# Altium integrated library TI Data Converters Analog to Digital Converter.IntLib: 2198 symbols (part 24 of 164)
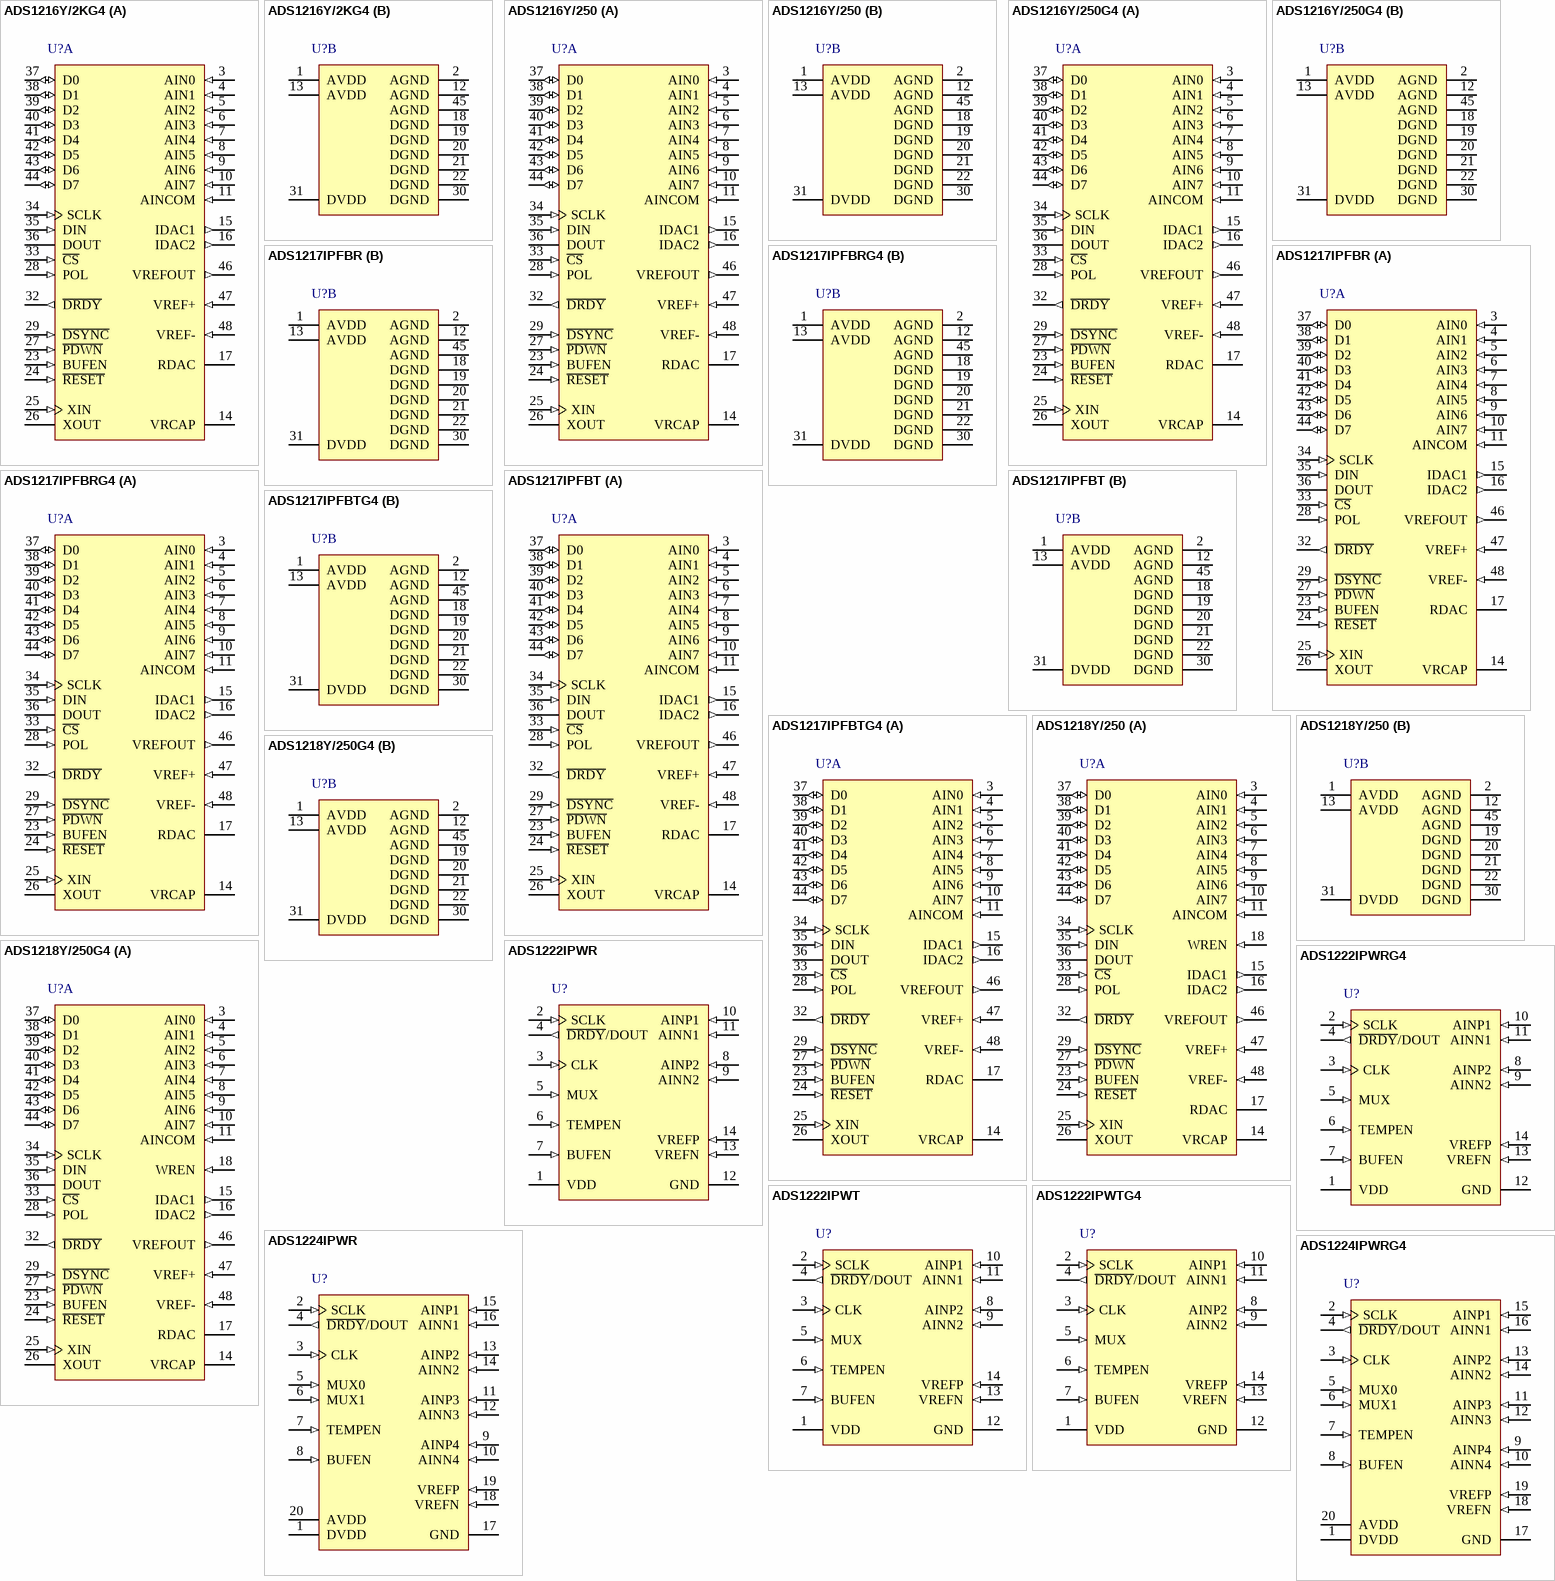
[diagram p149: symbols ADS1216Y/2KG4 to ADS1224IPWRG4]

## ADS1216Y/250G4
designator U?
24-Bit ADC, -40 to 85 degC, 48-pin QFP (PFB48), Green (RoHS & no Sb/Br); Manufacturer: Texas Instruments; PartNumber: ADS1216Y/250G4; # Input Channels: 8; Analog Voltage AV/DD(Max)(V): 5.25; Analog Voltage AV/DD(Min)(V): 2.7; Architecture: Delta-Sigma; ENOB(Bits): 22; Interface: Serial SPI; Resolution(Bits): 24; Sample Rate (max)(SPS): 780; SubFamily: Precision ADC (<=10MSPS); DatasheetVersion: SBAS171D; PackageVersion: 4073176/B, 10/1996; PackageReference: PFB48; PackageDescription: 48-Pin Plastic Flat Pack, Body 7 x 7 mm, Pitch 0.5 mm; Supplier 1: Digi-Key; Supplier Part Number 1: ADS1254E/2K5G4-ND; Digital Supply(Max)(V): 5.25; Digital Supply(Min)(V): 2.7; Eco-Plan: Green (RoHS & no Sb/Br); Mounting Technology: Surface Mount; Code_JEDEC: MS-026; ComponentLink1Description: Manufacturer URL; ComponentLink1URL: http://www.ti.com/; ComponentLink2Description: Datasheet; ComponentLink2URL: http://www.ti.com/general/docs/lit/getliterature.tsp?genericPartNumber=ADS1216&fileType=pdf; ComponentLink3Description: Package Specification; ComponentLink3URL: http://www.ti.com/lit/ml/mtqf019a/mtqf019a.pdf
footprint TI-PFB48_N (QFP, 48-Leads, Body 7x7mm, Pitch 0.5mm, IPC Medium Density)
footprint TI-PFB48_L (QFP, 48-Leads, Body 7x7mm, Pitch 0.5mm, IPC High Density)
footprint TI-PFB48_M (QFP, 48-Leads, Body 7x7mm, Pitch 0.5mm, IPC Low Density)
part A pins: 3 AIN0 (in) "Analog Input 0", 4 AIN1 (in) "Analog Input 1", 5 AIN2 (in) "Analog Input 2", 6 AIN3 (in) "Analog Input 3", 7 AIN4 (in) "Analog Input 4", 8 AIN5 (in) "Analog Input 5", 9 AIN6 (in) "Analog Input 6", 10 AIN7 (in) "Analog Input 7", 11 AINCOM (in) "Analog Input Common", 14 VRCAP "VREFOUT Bypass Capacitor", 15 IDAC1 (out) "Current DAC1 Output", 16 IDAC2 (out) "Current DAC2 Output", 17 RDAC "Current DAC Resistor", 23 BUFEN (in) "Buffer Enable Input", 24 ~{RESET} (in) "Active LOW, resets the entire chip.", 25 XIN (in) "Clock Input", 26 XOUT "Clock Output, used with crystal or resonator.", 27 ~{PDWN} (in) "Active LOW. Power Down. The power-down function shuts down the analog and digital circuits", 28 POL (in) "Serial Clock Polarity Input", 29 ~{DSYNC} (in) "Active LOW, Synchronization Control Input", 32 ~{DRDY} (out) "Active LOW, Data Ready Output", 33 ~{CS} (in) "Active LOW, Chip Select Input", 34 SCLK (in) "Serial Clock, Schmitt Trigger", 35 DIN (in) "Serial Data Input, Schmitt Trigger", 36 DOUT (hiz) "Serial Data Output", 37 D0 (io) "Digital I/O 0", 38 D1 (io) "Digital I/O 1", 39 D2 (io) "Digital I/O 2", 40 D3 (io) "Digital I/O 3", 41 D4 (io) "Digital I/O 4", 42 D5 (io) "Digital I/O 5", 43 D6 (io) "Digital I/O 6", 44 D7 (io) "Digital I/O 7", 46 VREFOUT (out) "Voltage Reference Output", 47 VREF+ (in) "Positive Differential Reference Input", 48 VREF- (in) "Negative Differential Reference Input"
part B pins: 1 AVDD (power) "Analog Power Supply", 2 AGND (power) "Analog Ground", 12 AGND (power) "Analog Ground", 13 AVDD (power) "Analog Power Supply", 18 DGND (power) "Digital Ground", 19 DGND (power) "Digital Ground", 20 DGND (power) "Digital Ground", 21 DGND (power) "Digital Ground", 22 DGND (power) "Digital Ground", 30 DGND (power) "Digital Ground", 31 DVDD (power) "Digital Power Supply", 45 AGND (power) "Analog Ground"

## ADS1217IPFBR
designator U?
8-Channel, 24-Bit ADC, -40 to 85 degC, 48-pin QFP (PFB48), Green (RoHS & no Sb/Br); Manufacturer: Texas Instruments; PartNumber: ADS1217IPFBR; # Input Channels: 8; Analog Voltage AV/DD(Max)(V): 5.25; Analog Voltage AV/DD(Min)(V): 2.7; Architecture: Delta-Sigma; ENOB(Bits): 22; Interface: Serial SPI; Resolution(Bits): 24; Sample Rate (max)(SPS): 780; SubFamily: Precision ADC (<=10MSPS); DatasheetVersion: SBAS260C; PackageVersion: 4073176/B, 10/1996; PackageReference: PFB48; PackageDescription: 48-Pin Plastic Flat Pack, Body 7 x 7 mm, Pitch 0.5 mm; Supplier 1: Digi-Key; Supplier Part Number 1: ADS1254EG4-ND; Digital Supply(Max)(V): 5.25; Digital Supply(Min)(V): 2.7; Eco-Plan: Green (RoHS & no Sb/Br); Mounting Technology: Surface Mount; Code_JEDEC: MS-026; ComponentLink1Description: Manufacturer URL; ComponentLink1URL: http://www.ti.com/; ComponentLink2Description: Datasheet; ComponentLink2URL: http://www.ti.com/general/docs/lit/getliterature.tsp?genericPartNumber=ADS1217&fileType=pdf; ComponentLink3Description: Package Specification; ComponentLink3URL: http://www.ti.com/lit/ml/mtqf019a/mtqf019a.pdf
footprint TI-PFB48_N (QFP, 48-Leads, Body 7x7mm, Pitch 0.5mm, IPC Medium Density)
footprint TI-PFB48_L (QFP, 48-Leads, Body 7x7mm, Pitch 0.5mm, IPC High Density)
footprint TI-PFB48_M (QFP, 48-Leads, Body 7x7mm, Pitch 0.5mm, IPC Low Density)
part A pins: 3 AIN0 (in) "Analog Input 0", 4 AIN1 (in) "Analog Input 1", 5 AIN2 (in) "Analog Input 2", 6 AIN3 (in) "Analog Input 3", 7 AIN4 (in) "Analog Input 4", 8 AIN5 (in) "Analog Input 5", 9 AIN6 (in) "Analog Input 6", 10 AIN7 (in) "Analog Input 7", 11 AINCOM (in) "Analog Input Common", 14 VRCAP "VREFOUT Bypass Capacitor", 15 IDAC1 (out) "Current DAC1 Output", 16 IDAC2 (out) "Current DAC2 Output", 17 RDAC "Current DAC Resistor", 23 BUFEN (in) "Buffer Enable Input", 24 ~{RESET} (in) "Active LOW, resets the entire chip.", 25 XIN (in) "Clock Input", 26 XOUT "Clock Output, used with crystal or resonator.", 27 ~{PDWN} (in) "Active LOW. Power Down. The power-down function shuts down the analog and digital circuits", 28 POL (in) "Serial Clock Polarity Input", 29 ~{DSYNC} (in) "Active LOW, Synchronization Control Input", 32 ~{DRDY} (out) "Active LOW, Data Ready Output", 33 ~{CS} (in) "Active LOW, Chip Select Input", 34 SCLK (in) "Serial Clock, Schmitt Trigger", 35 DIN (in) "Serial Data Input, Schmitt Trigger", 36 DOUT (hiz) "Serial Data Output", 37 D0 (io) "Digital I/O 0", 38 D1 (io) "Digital I/O 1", 39 D2 (io) "Digital I/O 2", 40 D3 (io) "Digital I/O 3", 41 D4 (io) "Digital I/O 4", 42 D5 (io) "Digital I/O 5", 43 D6 (io) "Digital I/O 6", 44 D7 (io) "Digital I/O 7", 46 VREFOUT (out) "Voltage Reference Output", 47 VREF+ (in) "Positive Differential Reference Input", 48 VREF- (in) "Negative Differential Reference Input"
part B pins: 1 AVDD (power) "Analog Power Supply", 2 AGND (power) "Analog Ground", 12 AGND (power) "Analog Ground", 13 AVDD (power) "Analog Power Supply", 18 DGND (power) "Digital Ground", 19 DGND (power) "Digital Ground", 20 DGND (power) "Digital Ground", 21 DGND (power) "Digital Ground", 22 DGND (power) "Digital Ground", 30 DGND (power) "Digital Ground", 31 DVDD (power) "Digital Power Supply", 45 AGND (power) "Analog Ground"

## ADS1217IPFBRG4
designator U?
8-Channel, 24-Bit ADC, -40 to 85 degC, 48-pin QFP (PFB48), Green (RoHS & no Sb/Br); Manufacturer: Texas Instruments; PartNumber: ADS1217IPFBRG4; # Input Channels: 8; Analog Voltage AV/DD(Max)(V): 5.25; Analog Voltage AV/DD(Min)(V): 2.7; Architecture: Delta-Sigma; ENOB(Bits): 22; Interface: Serial SPI; Resolution(Bits): 24; Sample Rate (max)(SPS): 780; SubFamily: Precision ADC (<=10MSPS); DatasheetVersion: SBAS260C; PackageVersion: 4073176/B, 10/1996; PackageReference: PFB48; PackageDescription: 48-Pin Plastic Flat Pack, Body 7 x 7 mm, Pitch 0.5 mm; Supplier 1: Digi-Key; Supplier Part Number 1: ADS8345E-ND; Digital Supply(Max)(V): 5.25; Digital Supply(Min)(V): 2.7; Eco-Plan: Green (RoHS & no Sb/Br); Mounting Technology: Surface Mount; Code_JEDEC: MS-026; ComponentLink1Description: Manufacturer URL; ComponentLink1URL: http://www.ti.com/; ComponentLink2Description: Datasheet; ComponentLink2URL: http://www.ti.com/general/docs/lit/getliterature.tsp?genericPartNumber=ADS1217&fileType=pdf; ComponentLink3Description: Package Specification; ComponentLink3URL: http://www.ti.com/lit/ml/mtqf019a/mtqf019a.pdf
footprint TI-PFB48_N (QFP, 48-Leads, Body 7x7mm, Pitch 0.5mm, IPC Medium Density)
footprint TI-PFB48_L (QFP, 48-Leads, Body 7x7mm, Pitch 0.5mm, IPC High Density)
footprint TI-PFB48_M (QFP, 48-Leads, Body 7x7mm, Pitch 0.5mm, IPC Low Density)
part A pins: 3 AIN0 (in) "Analog Input 0", 4 AIN1 (in) "Analog Input 1", 5 AIN2 (in) "Analog Input 2", 6 AIN3 (in) "Analog Input 3", 7 AIN4 (in) "Analog Input 4", 8 AIN5 (in) "Analog Input 5", 9 AIN6 (in) "Analog Input 6", 10 AIN7 (in) "Analog Input 7", 11 AINCOM (in) "Analog Input Common", 14 VRCAP "VREFOUT Bypass Capacitor", 15 IDAC1 (out) "Current DAC1 Output", 16 IDAC2 (out) "Current DAC2 Output", 17 RDAC "Current DAC Resistor", 23 BUFEN (in) "Buffer Enable Input", 24 ~{RESET} (in) "Active LOW, resets the entire chip.", 25 XIN (in) "Clock Input", 26 XOUT "Clock Output, used with crystal or resonator.", 27 ~{PDWN} (in) "Active LOW. Power Down. The power-down function shuts down the analog and digital circuits", 28 POL (in) "Serial Clock Polarity Input", 29 ~{DSYNC} (in) "Active LOW, Synchronization Control Input", 32 ~{DRDY} (out) "Active LOW, Data Ready Output", 33 ~{CS} (in) "Active LOW, Chip Select Input", 34 SCLK (in) "Serial Clock, Schmitt Trigger", 35 DIN (in) "Serial Data Input, Schmitt Trigger", 36 DOUT (hiz) "Serial Data Output", 37 D0 (io) "Digital I/O 0", 38 D1 (io) "Digital I/O 1", 39 D2 (io) "Digital I/O 2", 40 D3 (io) "Digital I/O 3", 41 D4 (io) "Digital I/O 4", 42 D5 (io) "Digital I/O 5", 43 D6 (io) "Digital I/O 6", 44 D7 (io) "Digital I/O 7", 46 VREFOUT (out) "Voltage Reference Output", 47 VREF+ (in) "Positive Differential Reference Input", 48 VREF- (in) "Negative Differential Reference Input"
part B pins: 1 AVDD (power) "Analog Power Supply", 2 AGND (power) "Analog Ground", 12 AGND (power) "Analog Ground", 13 AVDD (power) "Analog Power Supply", 18 DGND (power) "Digital Ground", 19 DGND (power) "Digital Ground", 20 DGND (power) "Digital Ground", 21 DGND (power) "Digital Ground", 22 DGND (power) "Digital Ground", 30 DGND (power) "Digital Ground", 31 DVDD (power) "Digital Power Supply", 45 AGND (power) "Analog Ground"

## ADS1217IPFBT
designator U?
8-Channel, 24-Bit ADC, -40 to 85 degC, 48-pin QFP (PFB48), Green (RoHS & no Sb/Br); Manufacturer: Texas Instruments; PartNumber: ADS1217IPFBT; # Input Channels: 8; Analog Voltage AV/DD(Max)(V): 5.25; Analog Voltage AV/DD(Min)(V): 2.7; Architecture: Delta-Sigma; ENOB(Bits): 22; Interface: Serial SPI; Resolution(Bits): 24; Sample Rate (max)(SPS): 780; SubFamily: Precision ADC (<=10MSPS); DatasheetVersion: SBAS260C; PackageVersion: 4073176/B, 10/1996; PackageReference: PFB48; PackageDescription: 48-Pin Plastic Flat Pack, Body 7 x 7 mm, Pitch 0.5 mm; Supplier 1: Digi-Key; Supplier Part Number 1: ADS8345E/2K5-ND; Digital Supply(Max)(V): 5.25; Digital Supply(Min)(V): 2.7; Eco-Plan: Green (RoHS & no Sb/Br); Mounting Technology: Surface Mount; Code_JEDEC: MS-026; ComponentLink1Description: Manufacturer URL; ComponentLink1URL: http://www.ti.com/; ComponentLink2Description: Datasheet; ComponentLink2URL: http://www.ti.com/general/docs/lit/getliterature.tsp?genericPartNumber=ADS1217&fileType=pdf; ComponentLink3Description: Package Specification; ComponentLink3URL: http://www.ti.com/lit/ml/mtqf019a/mtqf019a.pdf
footprint TI-PFB48_N (QFP, 48-Leads, Body 7x7mm, Pitch 0.5mm, IPC Medium Density)
footprint TI-PFB48_L (QFP, 48-Leads, Body 7x7mm, Pitch 0.5mm, IPC High Density)
footprint TI-PFB48_M (QFP, 48-Leads, Body 7x7mm, Pitch 0.5mm, IPC Low Density)
part A pins: 3 AIN0 (in) "Analog Input 0", 4 AIN1 (in) "Analog Input 1", 5 AIN2 (in) "Analog Input 2", 6 AIN3 (in) "Analog Input 3", 7 AIN4 (in) "Analog Input 4", 8 AIN5 (in) "Analog Input 5", 9 AIN6 (in) "Analog Input 6", 10 AIN7 (in) "Analog Input 7", 11 AINCOM (in) "Analog Input Common", 14 VRCAP "VREFOUT Bypass Capacitor", 15 IDAC1 (out) "Current DAC1 Output", 16 IDAC2 (out) "Current DAC2 Output", 17 RDAC "Current DAC Resistor", 23 BUFEN (in) "Buffer Enable Input", 24 ~{RESET} (in) "Active LOW, resets the entire chip.", 25 XIN (in) "Clock Input", 26 XOUT "Clock Output, used with crystal or resonator.", 27 ~{PDWN} (in) "Active LOW. Power Down. The power-down function shuts down the analog and digital circuits", 28 POL (in) "Serial Clock Polarity Input", 29 ~{DSYNC} (in) "Active LOW, Synchronization Control Input", 32 ~{DRDY} (out) "Active LOW, Data Ready Output", 33 ~{CS} (in) "Active LOW, Chip Select Input", 34 SCLK (in) "Serial Clock, Schmitt Trigger", 35 DIN (in) "Serial Data Input, Schmitt Trigger", 36 DOUT (hiz) "Serial Data Output", 37 D0 (io) "Digital I/O 0", 38 D1 (io) "Digital I/O 1", 39 D2 (io) "Digital I/O 2", 40 D3 (io) "Digital I/O 3", 41 D4 (io) "Digital I/O 4", 42 D5 (io) "Digital I/O 5", 43 D6 (io) "Digital I/O 6", 44 D7 (io) "Digital I/O 7", 46 VREFOUT (out) "Voltage Reference Output", 47 VREF+ (in) "Positive Differential Reference Input", 48 VREF- (in) "Negative Differential Reference Input"
part B pins: 1 AVDD (power) "Analog Power Supply", 2 AGND (power) "Analog Ground", 12 AGND (power) "Analog Ground", 13 AVDD (power) "Analog Power Supply", 18 DGND (power) "Digital Ground", 19 DGND (power) "Digital Ground", 20 DGND (power) "Digital Ground", 21 DGND (power) "Digital Ground", 22 DGND (power) "Digital Ground", 30 DGND (power) "Digital Ground", 31 DVDD (power) "Digital Power Supply", 45 AGND (power) "Analog Ground"

## ADS1217IPFBTG4
designator U?
8-Channel, 24-Bit ADC, -40 to 85 degC, 48-pin QFP (PFB48), Green (RoHS & no Sb/Br); Manufacturer: Texas Instruments; PartNumber: ADS1217IPFBTG4; # Input Channels: 8; Analog Voltage AV/DD(Max)(V): 5.25; Analog Voltage AV/DD(Min)(V): 2.7; Architecture: Delta-Sigma; ENOB(Bits): 22; Interface: Serial SPI; Resolution(Bits): 24; Sample Rate (max)(SPS): 780; SubFamily: Precision ADC (<=10MSPS); DatasheetVersion: SBAS260C; PackageVersion: 4073176/B, 10/1996; PackageReference: PFB48; PackageDescription: 48-Pin Plastic Flat Pack, Body 7 x 7 mm, Pitch 0.5 mm; Supplier 1: Digi-Key; Supplier Part Number 1: ADS8345E/2K5G4-ND; Digital Supply(Max)(V): 5.25; Digital Supply(Min)(V): 2.7; Eco-Plan: Green (RoHS & no Sb/Br); Mounting Technology: Surface Mount; Code_JEDEC: MS-026; ComponentLink1Description: Manufacturer URL; ComponentLink1URL: http://www.ti.com/; ComponentLink2Description: Datasheet; ComponentLink2URL: http://www.ti.com/general/docs/lit/getliterature.tsp?genericPartNumber=ADS1217&fileType=pdf; ComponentLink3Description: Package Specification; ComponentLink3URL: http://www.ti.com/lit/ml/mtqf019a/mtqf019a.pdf
footprint TI-PFB48_N (QFP, 48-Leads, Body 7x7mm, Pitch 0.5mm, IPC Medium Density)
footprint TI-PFB48_L (QFP, 48-Leads, Body 7x7mm, Pitch 0.5mm, IPC High Density)
footprint TI-PFB48_M (QFP, 48-Leads, Body 7x7mm, Pitch 0.5mm, IPC Low Density)
part A pins: 3 AIN0 (in) "Analog Input 0", 4 AIN1 (in) "Analog Input 1", 5 AIN2 (in) "Analog Input 2", 6 AIN3 (in) "Analog Input 3", 7 AIN4 (in) "Analog Input 4", 8 AIN5 (in) "Analog Input 5", 9 AIN6 (in) "Analog Input 6", 10 AIN7 (in) "Analog Input 7", 11 AINCOM (in) "Analog Input Common", 14 VRCAP "VREFOUT Bypass Capacitor", 15 IDAC1 (out) "Current DAC1 Output", 16 IDAC2 (out) "Current DAC2 Output", 17 RDAC "Current DAC Resistor", 23 BUFEN (in) "Buffer Enable Input", 24 ~{RESET} (in) "Active LOW, resets the entire chip.", 25 XIN (in) "Clock Input", 26 XOUT "Clock Output, used with crystal or resonator.", 27 ~{PDWN} (in) "Active LOW. Power Down. The power-down function shuts down the analog and digital circuits", 28 POL (in) "Serial Clock Polarity Input", 29 ~{DSYNC} (in) "Active LOW, Synchronization Control Input", 32 ~{DRDY} (out) "Active LOW, Data Ready Output", 33 ~{CS} (in) "Active LOW, Chip Select Input", 34 SCLK (in) "Serial Clock, Schmitt Trigger", 35 DIN (in) "Serial Data Input, Schmitt Trigger", 36 DOUT (hiz) "Serial Data Output", 37 D0 (io) "Digital I/O 0", 38 D1 (io) "Digital I/O 1", 39 D2 (io) "Digital I/O 2", 40 D3 (io) "Digital I/O 3", 41 D4 (io) "Digital I/O 4", 42 D5 (io) "Digital I/O 5", 43 D6 (io) "Digital I/O 6", 44 D7 (io) "Digital I/O 7", 46 VREFOUT (out) "Voltage Reference Output", 47 VREF+ (in) "Positive Differential Reference Input", 48 VREF- (in) "Negative Differential Reference Input"
part B pins: 1 AVDD (power) "Analog Power Supply", 2 AGND (power) "Analog Ground", 12 AGND (power) "Analog Ground", 13 AVDD (power) "Analog Power Supply", 18 DGND (power) "Digital Ground", 19 DGND (power) "Digital Ground", 20 DGND (power) "Digital Ground", 21 DGND (power) "Digital Ground", 22 DGND (power) "Digital Ground", 30 DGND (power) "Digital Ground", 31 DVDD (power) "Digital Power Supply", 45 AGND (power) "Analog Ground"

## ADS1218Y/250
designator U?
24-Bit, 780 SPS ADC with Flash Memory, 8 Channel, Vref, Buffer, 2 IDAC, Serial Out, Digital I/O, Low Power, -40 to 85 degC, 48-pin QFP (PFB48), Green (RoHS & no Sb/Br); Manufacturer: Texas Instruments; PartNumber: ADS1218Y/250; # Input Channels: 8; Analog Voltage AV/DD(Max)(V): 5.25; Analog Voltage AV/DD(Min)(V): 2.7; Architecture: Delta-Sigma; ENOB(Bits): 22; Interface: Serial SPI; Resolution(Bits): 24; Sample Rate (max)(SPS): 780; SubFamily: Precision ADC (<=10MSPS); DatasheetVersion: SBAS187C; PackageVersion: 4073176/B, 10/1996; PackageReference: PFB48; PackageDescription: 48-Pin Plastic Flat Pack, Body 7 x 7 mm, Pitch 0.5 mm; Supplier 1: Digi-Key; Supplier Part Number 1: 296-32825-5-ND; Digital Supply(Max)(V): 5.25; Digital Supply(Min)(V): 2.7; Eco-Plan: Green (RoHS & no Sb/Br); Mounting Technology: Surface Mount; Code_JEDEC: MS-026; ComponentLink1Description: Manufacturer URL; ComponentLink1URL: http://www.ti.com/; ComponentLink2Description: Datasheet; ComponentLink2URL: http://www.ti.com/general/docs/lit/getliterature.tsp?genericPartNumber=ADS1218&fileType=pdf; ComponentLink3Description: Package Specification; ComponentLink3URL: http://www.ti.com/lit/ml/mtqf019a/mtqf019a.pdf
footprint TI-PFB48_N (QFP, 48-Leads, Body 7x7mm, Pitch 0.5mm, IPC Medium Density)
footprint TI-PFB48_L (QFP, 48-Leads, Body 7x7mm, Pitch 0.5mm, IPC High Density)
footprint TI-PFB48_M (QFP, 48-Leads, Body 7x7mm, Pitch 0.5mm, IPC Low Density)
part A pins: 3 AIN0 (in) "Analog Input 0", 4 AIN1 (in) "Analog Input 1", 5 AIN2 (in) "Analog Input 2", 6 AIN3 (in) "Analog Input 3", 7 AIN4 (in) "Analog Input 4", 8 AIN5 (in) "Analog Input 5", 9 AIN6 (in) "Analog Input 6", 10 AIN7 (in) "Analog Input 7", 11 AINCOM (in) "Analog Input Common", 14 VRCAP "VREFOUT Bypass Capacitor", 15 IDAC1 (out) "Current DAC1 Output", 16 IDAC2 (out) "Current DAC2 Output", 17 RDAC "Current DAC Resistor", 18 WREN (in) "Active High, Flash Write Enable", 23 BUFEN (in) "Buffer Enable Input", 24 ~{RESET} (in) "Active LOW, resets the entire chip.", 25 XIN (in) "Clock Input", 26 XOUT "Clock Output, used with crystal or resonator.", 27 ~{PDWN} (in) "Active LOW. Power Down. The power-down function shuts down the analog and digital circuits", 28 POL (in) "Serial Clock Polarity Input", 29 ~{DSYNC} (in) "Active LOW, Synchronization Control Input", 32 ~{DRDY} (out) "Active LOW, Data Ready Output", 33 ~{CS} (in) "Active LOW, Chip Select Input", 34 SCLK (in) "Serial Clock, Schmitt Trigger", 35 DIN (in) "Serial Data Input, Schmitt Trigger", 36 DOUT (hiz) "Serial Data Output", 37 D0 (io) "Digital I/O 0", 38 D1 (io) "Digital I/O 1", 39 D2 (io) "Digital I/O 2", 40 D3 (io) "Digital I/O 3", 41 D4 (io) "Digital I/O 4", 42 D5 (io) "Digital I/O 5", 43 D6 (io) "Digital I/O 6", 44 D7 (io) "Digital I/O 7", 46 VREFOUT (out) "Voltage Reference Output", 47 VREF+ (in) "Positive Differential Reference Input", 48 VREF- (in) "Negative Differential Reference Input"
part B pins: 1 AVDD (power) "Analog Power Supply", 2 AGND (power) "Analog Ground", 12 AGND (power) "Analog Ground", 13 AVDD (power) "Analog Power Supply", 19 DGND (power) "Digital Ground", 20 DGND (power) "Digital Ground", 21 DGND (power) "Digital Ground", 22 DGND (power) "Digital Ground", 30 DGND (power) "Digital Ground", 31 DVDD (power) "Digital Power Supply", 45 AGND (power) "Analog Ground"

## ADS1218Y/250G4
designator U?
24-Bit, 780 SPS ADC with Flash Memory, 8 Channel, Vref, Buffer, 2 IDAC, Serial Out, Digital I/O, Low Power, -40 to 85 degC, 48-pin QFP (PFB48), Green (RoHS & no Sb/Br); Manufacturer: Texas Instruments; PartNumber: ADS1218Y/250G4; # Input Channels: 8; Analog Voltage AV/DD(Max)(V): 5.25; Analog Voltage AV/DD(Min)(V): 2.7; Architecture: Delta-Sigma; ENOB(Bits): 22; Interface: Serial SPI; Resolution(Bits): 24; Sample Rate (max)(SPS): 780; SubFamily: Precision ADC (<=10MSPS); DatasheetVersion: SBAS187C; PackageVersion: 4073176/B, 10/1996; PackageReference: PFB48; PackageDescription: 48-Pin Plastic Flat Pack, Body 7 x 7 mm, Pitch 0.5 mm; Supplier 1: Digi-Key; Supplier Part Number 1: ADS8345EBE4-ND; Digital Supply(Max)(V): 5.25; Digital Supply(Min)(V): 2.7; Eco-Plan: Green (RoHS & no Sb/Br); Mounting Technology: Surface Mount; Code_JEDEC: MS-026; ComponentLink1Description: Manufacturer URL; ComponentLink1URL: http://www.ti.com/; ComponentLink2Description: Datasheet; ComponentLink2URL: http://www.ti.com/general/docs/lit/getliterature.tsp?genericPartNumber=ADS1218&fileType=pdf; ComponentLink3Description: Package Specification; ComponentLink3URL: http://www.ti.com/lit/ml/mtqf019a/mtqf019a.pdf
footprint TI-PFB48_N (QFP, 48-Leads, Body 7x7mm, Pitch 0.5mm, IPC Medium Density)
footprint TI-PFB48_L (QFP, 48-Leads, Body 7x7mm, Pitch 0.5mm, IPC High Density)
footprint TI-PFB48_M (QFP, 48-Leads, Body 7x7mm, Pitch 0.5mm, IPC Low Density)
part A pins: 3 AIN0 (in) "Analog Input 0", 4 AIN1 (in) "Analog Input 1", 5 AIN2 (in) "Analog Input 2", 6 AIN3 (in) "Analog Input 3", 7 AIN4 (in) "Analog Input 4", 8 AIN5 (in) "Analog Input 5", 9 AIN6 (in) "Analog Input 6", 10 AIN7 (in) "Analog Input 7", 11 AINCOM (in) "Analog Input Common", 14 VRCAP "VREFOUT Bypass Capacitor", 15 IDAC1 (out) "Current DAC1 Output", 16 IDAC2 (out) "Current DAC2 Output", 17 RDAC "Current DAC Resistor", 18 WREN (in) "Active High, Flash Write Enable", 23 BUFEN (in) "Buffer Enable Input", 24 ~{RESET} (in) "Active LOW, resets the entire chip.", 25 XIN (in) "Clock Input", 26 XOUT "Clock Output, used with crystal or resonator.", 27 ~{PDWN} (in) "Active LOW. Power Down. The power-down function shuts down the analog and digital circuits", 28 POL (in) "Serial Clock Polarity Input", 29 ~{DSYNC} (in) "Active LOW, Synchronization Control Input", 32 ~{DRDY} (out) "Active LOW, Data Ready Output", 33 ~{CS} (in) "Active LOW, Chip Select Input", 34 SCLK (in) "Serial Clock, Schmitt Trigger", 35 DIN (in) "Serial Data Input, Schmitt Trigger", 36 DOUT (hiz) "Serial Data Output", 37 D0 (io) "Digital I/O 0", 38 D1 (io) "Digital I/O 1", 39 D2 (io) "Digital I/O 2", 40 D3 (io) "Digital I/O 3", 41 D4 (io) "Digital I/O 4", 42 D5 (io) "Digital I/O 5", 43 D6 (io) "Digital I/O 6", 44 D7 (io) "Digital I/O 7", 46 VREFOUT (out) "Voltage Reference Output", 47 VREF+ (in) "Positive Differential Reference Input", 48 VREF- (in) "Negative Differential Reference Input"
part B pins: 1 AVDD (power) "Analog Power Supply", 2 AGND (power) "Analog Ground", 12 AGND (power) "Analog Ground", 13 AVDD (power) "Analog Power Supply", 19 DGND (power) "Digital Ground", 20 DGND (power) "Digital Ground", 21 DGND (power) "Digital Ground", 22 DGND (power) "Digital Ground", 30 DGND (power) "Digital Ground", 31 DVDD (power) "Digital Power Supply", 45 AGND (power) "Analog Ground"

## ADS1222IPWR
designator U?
24-Bit ADC with 2-Channel Diffrential Input Multiplexer, -40 to 85 degC, 14-pin SOP (PW14), Green (RoHS & no Sb/Br); Manufacturer: Texas Instruments; PartNumber: ADS1222IPWR; # Input Channels: 2; Analog Voltage AV/DD(Max)(V): 5.5; Analog Voltage AV/DD(Min)(V): 2.7; Architecture: Delta-Sigma; ENOB(Bits): 20; Interface: Serial SPI; Resolution(Bits): 24; Sample Rate (max)(SPS): 240; SubFamily: Precision ADC (<=10MSPS); DatasheetVersion: SBAS314B; PackageVersion: 4040064-3/G, 02/2011; PackageReference: PW14; PackageDescription: 14-Pin Plastic Small Outline, Body 5 x 4.4 mm, Pitch 0.65 mm; Supplier 1: Digi-Key; Supplier Part Number 1: ADS8345EE4-ND; Digital Supply(Max)(V): 5.5; Digital Supply(Min)(V): 2.7; Eco-Plan: Green (RoHS & no Sb/Br); Mounting Technology: Surface Mount; Code_JEDEC: MO-153; ComponentLink1Description: Manufacturer URL; ComponentLink1URL: http://www.ti.com/; ComponentLink2Description: Datasheet; ComponentLink2URL: http://www.ti.com/general/docs/lit/getliterature.tsp?genericPartNumber=ADS1222&fileType=pdf; ComponentLink3Description: Package Specification; ComponentLink3URL: http://www.ti.com/litv/pdf/mpds360
footprint TI-PW14_N (SOP, 14-Leads, Body 5x4.4mm, Pitch 0.65mm, IPC Medium Density)
footprint TI-PW14_L (SOP, 14-Leads, Body 5x4.4mm, Pitch 0.65mm, IPC High Density)
footprint TI-PW14_M (SOP, 14-Leads, Body 5x4.4mm, Pitch 0.65mm, IPC Low Density)
pins: 1 VDD (power) "Analog and digital power supply", 2 SCLK (in) "Serial clock input", 3 CLK (in) "System clock input", 4 ~{DRDY}/DOUT (out) "Dual-purpose output: Data ready: indicates valid data by going low. Data output: outputs data, MSB first, on the rising edge of SCLK", 5 MUX (in) "Selects analog input of mux", 6 TEMPEN (in) "Selects temperature sensor input from mux", 7 BUFEN (in) "Enables input buffer", 8 AINP2 (in) "Analog channel 2 positive input", 9 AINN2 (in) "Analog channel 2 negative input", 10 AINP1 (in) "Analog channel 1 positive input", 11 AINN1 (in) "Analog channel 1 negative input", 12 GND (power) "Analog and digital ground", 13 VREFN (in) "Negative reference input", 14 VREFP (in) "Positive reference input"

## ADS1222IPWRG4
designator U?
24-Bit ADC with 2-Channel Diffrential Input Multiplexer, -40 to 85 degC, 14-pin SOP (PW14), Green (RoHS & no Sb/Br); Manufacturer: Texas Instruments; PartNumber: ADS1222IPWRG4; # Input Channels: 2; Analog Voltage AV/DD(Max)(V): 5.5; Analog Voltage AV/DD(Min)(V): 2.7; Architecture: Delta-Sigma; ENOB(Bits): 20; Interface: Serial SPI; Resolution(Bits): 24; Sample Rate (max)(SPS): 240; SubFamily: Precision ADC (<=10MSPS); DatasheetVersion: SBAS314B; PackageVersion: 4040064-3/G, 02/2011; PackageReference: PW14; PackageDescription: 14-Pin Plastic Small Outline, Body 5 x 4.4 mm, Pitch 0.65 mm; Supplier 1: Digi-Key; Supplier Part Number 1: ADS8344E-ND; Digital Supply(Max)(V): 5.5; Digital Supply(Min)(V): 2.7; Eco-Plan: Green (RoHS & no Sb/Br); Mounting Technology: Surface Mount; Code_JEDEC: MO-153; ComponentLink1Description: Manufacturer URL; ComponentLink1URL: http://www.ti.com/; ComponentLink2Description: Datasheet; ComponentLink2URL: http://www.ti.com/general/docs/lit/getliterature.tsp?genericPartNumber=ADS1222&fileType=pdf; ComponentLink3Description: Package Specification; ComponentLink3URL: http://www.ti.com/litv/pdf/mpds360
footprint TI-PW14_N (SOP, 14-Leads, Body 5x4.4mm, Pitch 0.65mm, IPC Medium Density)
footprint TI-PW14_L (SOP, 14-Leads, Body 5x4.4mm, Pitch 0.65mm, IPC High Density)
footprint TI-PW14_M (SOP, 14-Leads, Body 5x4.4mm, Pitch 0.65mm, IPC Low Density)
pins: 1 VDD (power) "Analog and digital power supply", 2 SCLK (in) "Serial clock input", 3 CLK (in) "System clock input", 4 ~{DRDY}/DOUT (out) "Dual-purpose output: Data ready: indicates valid data by going low. Data output: outputs data, MSB first, on the rising edge of SCLK", 5 MUX (in) "Selects analog input of mux", 6 TEMPEN (in) "Selects temperature sensor input from mux", 7 BUFEN (in) "Enables input buffer", 8 AINP2 (in) "Analog channel 2 positive input", 9 AINN2 (in) "Analog channel 2 negative input", 10 AINP1 (in) "Analog channel 1 positive input", 11 AINN1 (in) "Analog channel 1 negative input", 12 GND (power) "Analog and digital ground", 13 VREFN (in) "Negative reference input", 14 VREFP (in) "Positive reference input"

## ADS1222IPWT
designator U?
24-Bit ADC with 2-Channel Diffrential Input Multiplexer, -40 to 85 degC, 14-pin SOP (PW14), Green (RoHS & no Sb/Br); Manufacturer: Texas Instruments; PartNumber: ADS1222IPWT; # Input Channels: 2; Analog Voltage AV/DD(Max)(V): 5.5; Analog Voltage AV/DD(Min)(V): 2.7; Architecture: Delta-Sigma; ENOB(Bits): 20; Interface: Serial SPI; Resolution(Bits): 24; Sample Rate (max)(SPS): 240; SubFamily: Precision ADC (<=10MSPS); DatasheetVersion: SBAS314B; PackageVersion: 4040064-3/G, 02/2011; PackageReference: PW14; PackageDescription: 14-Pin Plastic Small Outline, Body 5 x 4.4 mm, Pitch 0.65 mm; Supplier 1: Digi-Key; Supplier Part Number 1: ADS8344E/2K5-ND; Digital Supply(Max)(V): 5.5; Digital Supply(Min)(V): 2.7; Eco-Plan: Green (RoHS & no Sb/Br); Mounting Technology: Surface Mount; Code_JEDEC: MO-153; ComponentLink1Description: Manufacturer URL; ComponentLink1URL: http://www.ti.com/; ComponentLink2Description: Datasheet; ComponentLink2URL: http://www.ti.com/general/docs/lit/getliterature.tsp?genericPartNumber=ADS1222&fileType=pdf; ComponentLink3Description: Package Specification; ComponentLink3URL: http://www.ti.com/litv/pdf/mpds360
footprint TI-PW14_N (SOP, 14-Leads, Body 5x4.4mm, Pitch 0.65mm, IPC Medium Density)
footprint TI-PW14_L (SOP, 14-Leads, Body 5x4.4mm, Pitch 0.65mm, IPC High Density)
footprint TI-PW14_M (SOP, 14-Leads, Body 5x4.4mm, Pitch 0.65mm, IPC Low Density)
pins: 1 VDD (power) "Analog and digital power supply", 2 SCLK (in) "Serial clock input", 3 CLK (in) "System clock input", 4 ~{DRDY}/DOUT (out) "Dual-purpose output: Data ready: indicates valid data by going low. Data output: outputs data, MSB first, on the rising edge of SCLK", 5 MUX (in) "Selects analog input of mux", 6 TEMPEN (in) "Selects temperature sensor input from mux", 7 BUFEN (in) "Enables input buffer", 8 AINP2 (in) "Analog channel 2 positive input", 9 AINN2 (in) "Analog channel 2 negative input", 10 AINP1 (in) "Analog channel 1 positive input", 11 AINN1 (in) "Analog channel 1 negative input", 12 GND (power) "Analog and digital ground", 13 VREFN (in) "Negative reference input", 14 VREFP (in) "Positive reference input"

## ADS1222IPWTG4
designator U?
24-Bit ADC with 2-Channel Diffrential Input Multiplexer, -40 to 85 degC, 14-pin SOP (PW14), Green (RoHS & no Sb/Br); Manufacturer: Texas Instruments; PartNumber: ADS1222IPWTG4; # Input Channels: 2; Analog Voltage AV/DD(Max)(V): 5.5; Analog Voltage AV/DD(Min)(V): 2.7; Architecture: Delta-Sigma; ENOB(Bits): 20; Interface: Serial SPI; Resolution(Bits): 24; Sample Rate (max)(SPS): 240; SubFamily: Precision ADC (<=10MSPS); DatasheetVersion: SBAS314B; PackageVersion: 4040064-3/G, 02/2011; PackageReference: PW14; PackageDescription: 14-Pin Plastic Small Outline, Body 5 x 4.4 mm, Pitch 0.65 mm; Supplier 1: Digi-Key; Supplier Part Number 1: ADS8344E/2K5G4-ND; Digital Supply(Max)(V): 5.5; Digital Supply(Min)(V): 2.7; Eco-Plan: Green (RoHS & no Sb/Br); Mounting Technology: Surface Mount; Code_JEDEC: MO-153; ComponentLink1Description: Manufacturer URL; ComponentLink1URL: http://www.ti.com/; ComponentLink2Description: Datasheet; ComponentLink2URL: http://www.ti.com/general/docs/lit/getliterature.tsp?genericPartNumber=ADS1222&fileType=pdf; ComponentLink3Description: Package Specification; ComponentLink3URL: http://www.ti.com/litv/pdf/mpds360
footprint TI-PW14_N (SOP, 14-Leads, Body 5x4.4mm, Pitch 0.65mm, IPC Medium Density)
footprint TI-PW14_L (SOP, 14-Leads, Body 5x4.4mm, Pitch 0.65mm, IPC High Density)
footprint TI-PW14_M (SOP, 14-Leads, Body 5x4.4mm, Pitch 0.65mm, IPC Low Density)
pins: 1 VDD (power) "Analog and digital power supply", 2 SCLK (in) "Serial clock input", 3 CLK (in) "System clock input", 4 ~{DRDY}/DOUT (out) "Dual-purpose output: Data ready: indicates valid data by going low. Data output: outputs data, MSB first, on the rising edge of SCLK", 5 MUX (in) "Selects analog input of mux", 6 TEMPEN (in) "Selects temperature sensor input from mux", 7 BUFEN (in) "Enables input buffer", 8 AINP2 (in) "Analog channel 2 positive input", 9 AINN2 (in) "Analog channel 2 negative input", 10 AINP1 (in) "Analog channel 1 positive input", 11 AINN1 (in) "Analog channel 1 negative input", 12 GND (power) "Analog and digital ground", 13 VREFN (in) "Negative reference input", 14 VREFP (in) "Positive reference input"

## ADS1224IPWR
designator U?
24-Bit, 240 SPS ADC with 4-Channel Differential Input Multiplexer, High-Z Buffer, Serial Output, -40 to 85 degC, 20-pin SOP (PW20), Green (RoHS & no Sb/Br); Manufacturer: Texas Instruments; PartNumber: ADS1224IPWR; # Input Channels: 4; Analog Voltage AV/DD(Max)(V): 5.5; Analog Voltage AV/DD(Min)(V): 2.7; Architecture: Delta-Sigma; Interface: Serial SPI; Resolution(Bits): 24; Sample Rate (max)(SPS): 240; SubFamily: Precision ADC (<=10MSPS); DatasheetVersion: SBAS286C; PackageVersion: 4040064-5/G, 02/2011; PackageReference: PW20; PackageDescription: 20-Pin Plastic Small Outline, Body 6.5 x 4.4 mm, Pitch 0.65 mm; Supplier 1: Digi-Key; Supplier Part Number 1: ADS8344EB-ND; Digital Supply(Max)(V): 5.5; Digital Supply(Min)(V): 2.7; Eco-Plan: Green (RoHS & no Sb/Br); Mounting Technology: Surface Mount; Code_JEDEC: MO-153; ComponentLink1Description: Manufacturer URL; ComponentLink1URL: http://www.ti.com/; ComponentLink2Description: Datasheet; ComponentLink2URL: http://www.ti.com/general/docs/lit/getliterature.tsp?genericPartNumber=ADS1224&fileType=pdf; ComponentLink3Description: Package Specification; ComponentLink3URL: http://www.ti.com.cn/cn/lit/ml/mpds362/mpds362.pdf
footprint TI-PW20_N (SOP, 20-Leads, Body 6.5x4.4mm, Pitch 0.65mm, IPC Medium Density)
footprint TI-PW20_L (SOP, 20-Leads, Body 6.5x4.4mm, Pitch 0.65mm, IPC High Density)
footprint TI-PW20_M (SOP, 20-Leads, Body 6.5x4.4mm, Pitch 0.65mm, IPC Low Density)
pins: 1 DVDD (power) "Digital power supply", 2 SCLK (in) "Serial clock input", 3 CLK (in) "System clock input", 4 ~{DRDY}/DOUT (out) "Dual-purpose output: Data Ready: indicates valid data by going low.Data Output: outputs data, MSB first, on the rising edge of SCLK.", 5 MUX0 (in) "Selects analog input of mux, bit 0", 6 MUX1 (in) "Selects analog input of mux, bit 1", 7 TEMPEN (in) "Selects temperature sensor input from mux", 8 BUFEN (in) "Enables input buffer", 9 AINP4 (in) "Analog channel 4 positive input", 10 AINN4 (in) "Analog channel 4 negative input", 11 AINP3 (in) "Analog channel 3 positive input", 12 AINN3 (in) "Analog channel 3 negative input", 13 AINP2 (in) "Analog channel 2 positive input", 14 AINN2 (in) "Analog channel 2 negative input", 15 AINP1 (in) "Analog channel 1 positive input", 16 AINN1 (in) "Analog channel 1 negative input", 17 GND (power) "Analog and digital ground", 18 VREFN (in) "Negative reference input", 19 VREFP (in) "Positive reference input", 20 AVDD (power) "Analog power supply"

## ADS1224IPWRG4
designator U?
24-Bit, 240 SPS ADC with 4-Channel Differential Input Multiplexer, High-Z Buffer, Serial Output, -40 to 85 degC, 20-pin SOP (PW20), Green (RoHS & no Sb/Br); Manufacturer: Texas Instruments; PartNumber: ADS1224IPWRG4; # Input Channels: 4; Analog Voltage AV/DD(Max)(V): 5.5; Analog Voltage AV/DD(Min)(V): 2.7; Architecture: Delta-Sigma; Interface: Serial SPI; Resolution(Bits): 24; Sample Rate (max)(SPS): 240; SubFamily: Precision ADC (<=10MSPS); DatasheetVersion: SBAS286C; PackageVersion: 4040064-5/G, 02/2011; PackageReference: PW20; PackageDescription: 20-Pin Plastic Small Outline, Body 6.5 x 4.4 mm, Pitch 0.65 mm; Supplier 1: Digi-Key; Supplier Part Number 1: ADS8344EB/2K5-ND; Digital Supply(Max)(V): 5.5; Digital Supply(Min)(V): 2.7; Eco-Plan: Green (RoHS & no Sb/Br); Mounting Technology: Surface Mount; Code_JEDEC: MO-153; ComponentLink1Description: Manufacturer URL; ComponentLink1URL: http://www.ti.com/; ComponentLink2Description: Datasheet; ComponentLink2URL: http://www.ti.com/general/docs/lit/getliterature.tsp?genericPartNumber=ADS1224&fileType=pdf; ComponentLink3Description: Package Specification; ComponentLink3URL: http://www.ti.com.cn/cn/lit/ml/mpds362/mpds362.pdf
footprint TI-PW20_N (SOP, 20-Leads, Body 6.5x4.4mm, Pitch 0.65mm, IPC Medium Density)
footprint TI-PW20_L (SOP, 20-Leads, Body 6.5x4.4mm, Pitch 0.65mm, IPC High Density)
footprint TI-PW20_M (SOP, 20-Leads, Body 6.5x4.4mm, Pitch 0.65mm, IPC Low Density)
pins: 1 DVDD (power) "Digital power supply", 2 SCLK (in) "Serial clock input", 3 CLK (in) "System clock input", 4 ~{DRDY}/DOUT (out) "Dual-purpose output: Data Ready: indicates valid data by going low.Data Output: outputs data, MSB first, on the rising edge of SCLK.", 5 MUX0 (in) "Selects analog input of mux, bit 0", 6 MUX1 (in) "Selects analog input of mux, bit 1", 7 TEMPEN (in) "Selects temperature sensor input from mux", 8 BUFEN (in) "Enables input buffer", 9 AINP4 (in) "Analog channel 4 positive input", 10 AINN4 (in) "Analog channel 4 negative input", 11 AINP3 (in) "Analog channel 3 positive input", 12 AINN3 (in) "Analog channel 3 negative input", 13 AINP2 (in) "Analog channel 2 positive input", 14 AINN2 (in) "Analog channel 2 negative input", 15 AINP1 (in) "Analog channel 1 positive input", 16 AINN1 (in) "Analog channel 1 negative input", 17 GND (power) "Analog and digital ground", 18 VREFN (in) "Negative reference input", 19 VREFP (in) "Positive reference input", 20 AVDD (power) "Analog power supply"

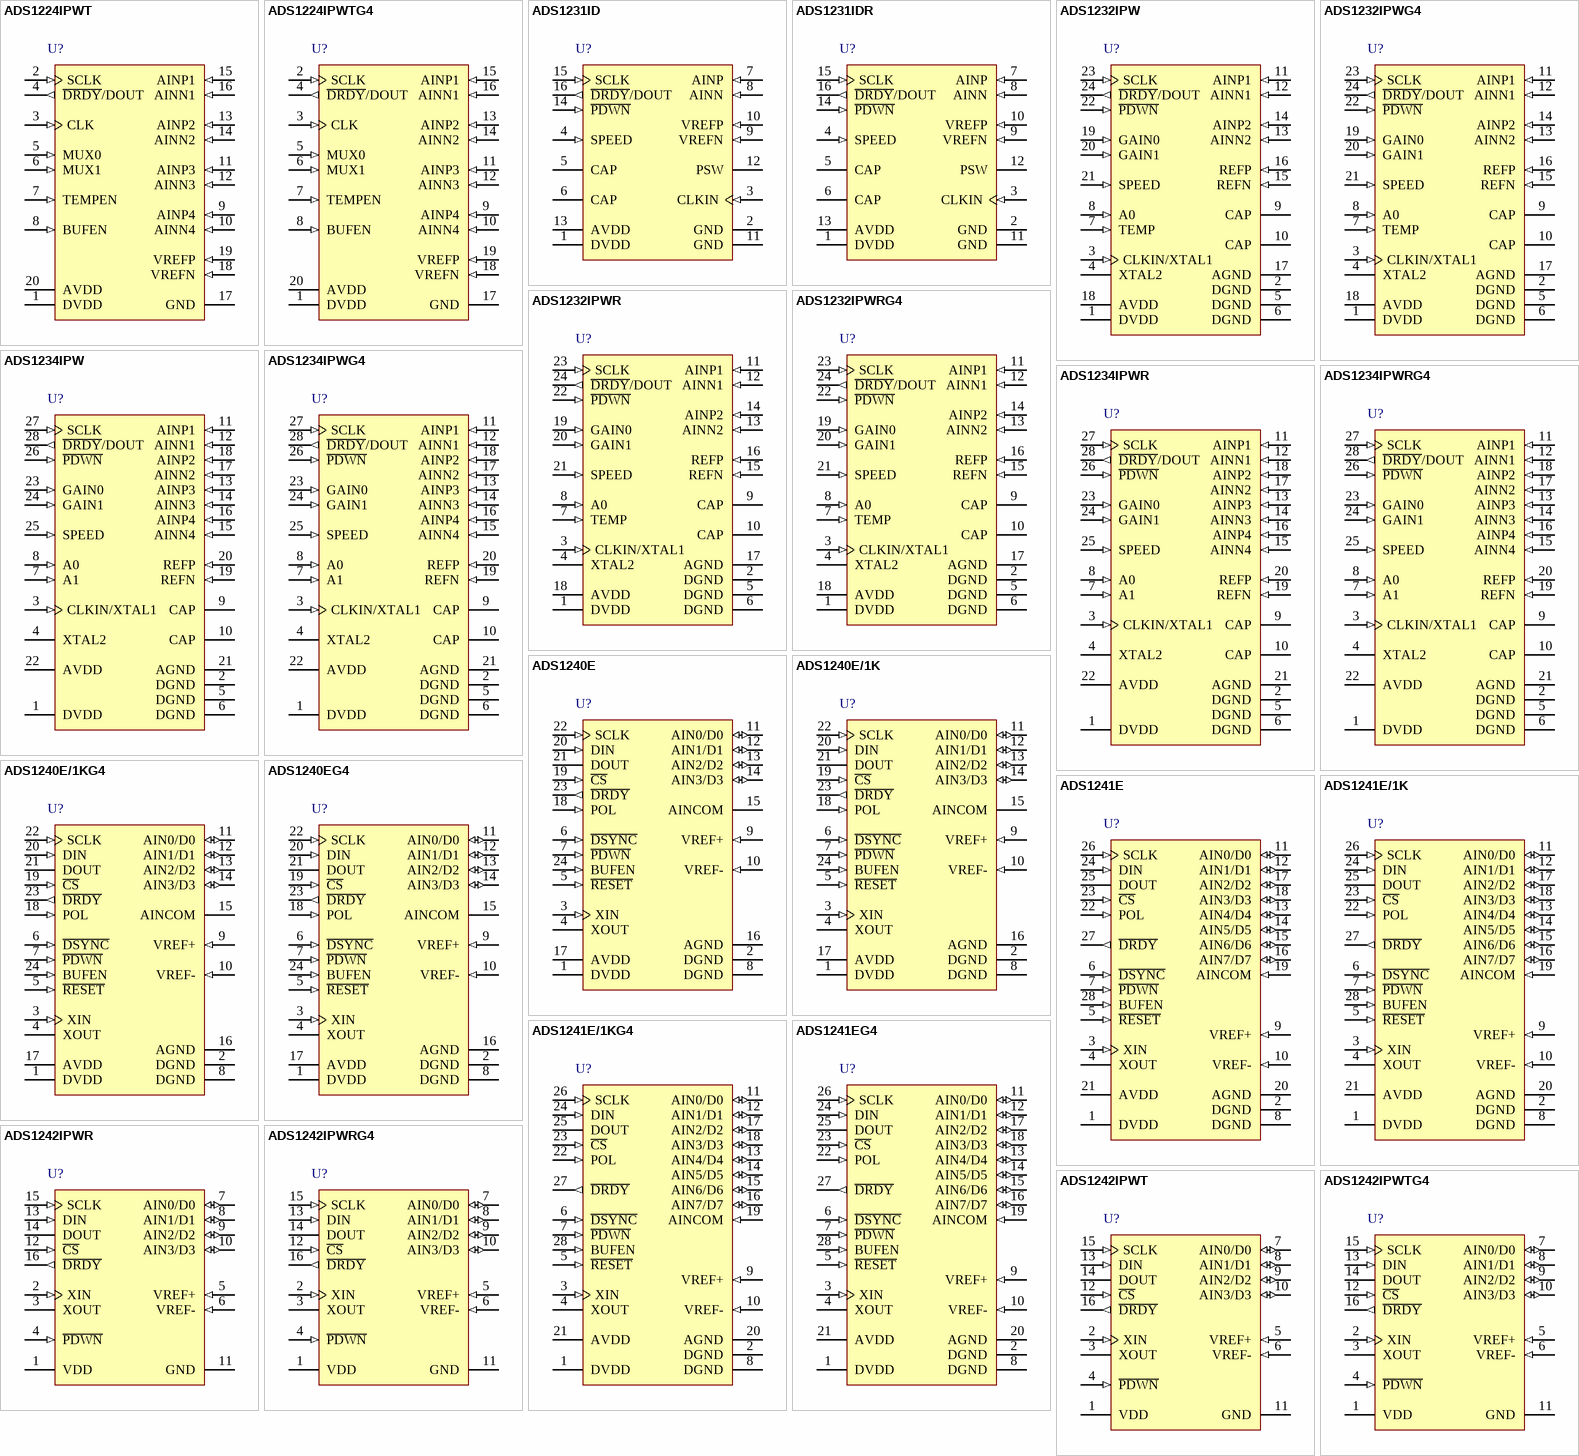
[diagram p20: symbols ADS1224IPWT to ADS1242IPWTG4]

## ADS1224IPWT
designator U?
24-Bit, 240 SPS ADC with 4-Channel Differential Input Multiplexer, High-Z Buffer, Serial Output, -40 to 85 degC, 20-pin SOP (PW20), Green (RoHS & no Sb/Br); Manufacturer: Texas Instruments; PartNumber: ADS1224IPWT; # Input Channels: 4; Analog Voltage AV/DD(Max)(V): 5.5; Analog Voltage AV/DD(Min)(V): 2.7; Architecture: Delta-Sigma; Interface: Serial SPI; Resolution(Bits): 24; Sample Rate (max)(SPS): 240; SubFamily: Precision ADC (<=10MSPS); DatasheetVersion: SBAS286C; PackageVersion: 4040064-5/G, 02/2011; PackageReference: PW20; PackageDescription: 20-Pin Plastic Small Outline, Body 6.5 x 4.4 mm, Pitch 0.65 mm; Supplier 1: Digi-Key; Supplier Part Number 1: ADS8344EB/2K5G4-ND; Digital Supply(Max)(V): 5.5; Digital Supply(Min)(V): 2.7; Eco-Plan: Green (RoHS & no Sb/Br); Mounting Technology: Surface Mount; Code_JEDEC: MO-153; ComponentLink1Description: Manufacturer URL; ComponentLink1URL: http://www.ti.com/; ComponentLink2Description: Datasheet; ComponentLink2URL: http://www.ti.com/general/docs/lit/getliterature.tsp?genericPartNumber=ADS1224&fileType=pdf; ComponentLink3Description: Package Specification; ComponentLink3URL: http://www.ti.com.cn/cn/lit/ml/mpds362/mpds362.pdf
footprint TI-PW20_N (SOP, 20-Leads, Body 6.5x4.4mm, Pitch 0.65mm, IPC Medium Density)
footprint TI-PW20_L (SOP, 20-Leads, Body 6.5x4.4mm, Pitch 0.65mm, IPC High Density)
footprint TI-PW20_M (SOP, 20-Leads, Body 6.5x4.4mm, Pitch 0.65mm, IPC Low Density)
pins: 1 DVDD (power) "Digital power supply", 2 SCLK (in) "Serial clock input", 3 CLK (in) "System clock input", 4 ~{DRDY}/DOUT (out) "Dual-purpose output: Data Ready: indicates valid data by going low.Data Output: outputs data, MSB first, on the rising edge of SCLK.", 5 MUX0 (in) "Selects analog input of mux, bit 0", 6 MUX1 (in) "Selects analog input of mux, bit 1", 7 TEMPEN (in) "Selects temperature sensor input from mux", 8 BUFEN (in) "Enables input buffer", 9 AINP4 (in) "Analog channel 4 positive input", 10 AINN4 (in) "Analog channel 4 negative input", 11 AINP3 (in) "Analog channel 3 positive input", 12 AINN3 (in) "Analog channel 3 negative input", 13 AINP2 (in) "Analog channel 2 positive input", 14 AINN2 (in) "Analog channel 2 negative input", 15 AINP1 (in) "Analog channel 1 positive input", 16 AINN1 (in) "Analog channel 1 negative input", 17 GND (power) "Analog and digital ground", 18 VREFN (in) "Negative reference input", 19 VREFP (in) "Positive reference input", 20 AVDD (power) "Analog power supply"

## ADS1224IPWTG4
designator U?
24-Bit, 240 SPS ADC with 4-Channel Differential Input Multiplexer, High-Z Buffer, Serial Output, -40 to 85 degC, 20-pin SOP (PW20), Green (RoHS & no Sb/Br); Manufacturer: Texas Instruments; PartNumber: ADS1224IPWTG4; # Input Channels: 4; Analog Voltage AV/DD(Max)(V): 5.5; Analog Voltage AV/DD(Min)(V): 2.7; Architecture: Delta-Sigma; Interface: Serial SPI; Resolution(Bits): 24; Sample Rate (max)(SPS): 240; SubFamily: Precision ADC (<=10MSPS); DatasheetVersion: SBAS286C; PackageVersion: 4040064-5/G, 02/2011; PackageReference: PW20; PackageDescription: 20-Pin Plastic Small Outline, Body 6.5 x 4.4 mm, Pitch 0.65 mm; Supplier 1: Digi-Key; Supplier Part Number 1: ADS8344EBG4-ND; Digital Supply(Max)(V): 5.5; Digital Supply(Min)(V): 2.7; Eco-Plan: Green (RoHS & no Sb/Br); Mounting Technology: Surface Mount; Code_JEDEC: MO-153; ComponentLink1Description: Manufacturer URL; ComponentLink1URL: http://www.ti.com/; ComponentLink2Description: Datasheet; ComponentLink2URL: http://www.ti.com/general/docs/lit/getliterature.tsp?genericPartNumber=ADS1224&fileType=pdf; ComponentLink3Description: Package Specification; ComponentLink3URL: http://www.ti.com.cn/cn/lit/ml/mpds362/mpds362.pdf
footprint TI-PW20_N (SOP, 20-Leads, Body 6.5x4.4mm, Pitch 0.65mm, IPC Medium Density)
footprint TI-PW20_L (SOP, 20-Leads, Body 6.5x4.4mm, Pitch 0.65mm, IPC High Density)
footprint TI-PW20_M (SOP, 20-Leads, Body 6.5x4.4mm, Pitch 0.65mm, IPC Low Density)
pins: 1 DVDD (power) "Digital power supply", 2 SCLK (in) "Serial clock input", 3 CLK (in) "System clock input", 4 ~{DRDY}/DOUT (out) "Dual-purpose output: Data Ready: indicates valid data by going low.Data Output: outputs data, MSB first, on the rising edge of SCLK.", 5 MUX0 (in) "Selects analog input of mux, bit 0", 6 MUX1 (in) "Selects analog input of mux, bit 1", 7 TEMPEN (in) "Selects temperature sensor input from mux", 8 BUFEN (in) "Enables input buffer", 9 AINP4 (in) "Analog channel 4 positive input", 10 AINN4 (in) "Analog channel 4 negative input", 11 AINP3 (in) "Analog channel 3 positive input", 12 AINN3 (in) "Analog channel 3 negative input", 13 AINP2 (in) "Analog channel 2 positive input", 14 AINN2 (in) "Analog channel 2 negative input", 15 AINP1 (in) "Analog channel 1 positive input", 16 AINN1 (in) "Analog channel 1 negative input", 17 GND (power) "Analog and digital ground", 18 VREFN (in) "Negative reference input", 19 VREFP (in) "Positive reference input", 20 AVDD (power) "Analog power supply"

## ADS1231ID
designator U?
Low-Noise, 24-Bit ADC, -40 to 85 degC, 16-pin SOIC (D16), Green (RoHS & no Sb/Br); Manufacturer: Texas Instruments; PartNumber: ADS1231ID; # Input Channels: 1; Analog Voltage AV/DD(Max)(V): 5.3; Analog Voltage AV/DD(Min)(V): 2.7; Architecture: Delta-Sigma; ENOB(Bits): 18.5; Interface: Serial SPI; Resolution(Bits): 24; Sample Rate (max)(SPS): 80; SubFamily: Precision ADC (<=10MSPS); DatasheetVersion: SBAS414C; PackageVersion: 4040047-6/M, 06/2011; PackageReference: D16; PackageDescription: 16-Pin Plastic Small Outline, Body 9.9 x 3.9 mm, Pitch 1.27 mm; Supplier 1: Digi-Key; Supplier Part Number 1: ADS8344EG4-ND; Digital Supply(Max)(V): 5.3; Digital Supply(Min)(V): 2.7; Eco-Plan: Green (RoHS & no Sb/Br); Mounting Technology: Surface Mount; Code_JEDEC: MS-012; ComponentLink1Description: Manufacturer URL; ComponentLink1URL: http://www.ti.com/; ComponentLink2Description: Datasheet; ComponentLink2URL: http://www.ti.com/general/docs/lit/getliterature.tsp?genericPartNumber=ADS1231&fileType=pdf; ComponentLink3Description: Package Specification; ComponentLink3URL: http://www.ti.com/litv/pdf/mpds178g
footprint TI-D16_N (SOIC, 16-Leads, Body 9.9x3.9mm, Pitch 1.27mm, IPC Medium Density)
footprint TI-D16_L (SOIC, 16-Leads, Body 9.9x3.9mm, Pitch 1.27mm, IPC High Density)
footprint TI-D16_M (SOIC, 16-Leads, Body 9.9x3.9mm, Pitch 1.27mm, IPC Low Density)
pins: 1 DVDD (power) "Digital power supply", 2 GND (power) "Ground for digital and analog supplies", 3 CLKIN (in) "External clock input: typically 4.9152MHz. Tie low to activate internal oscillator.", 4 SPEED (in) "Data rate select:", 5 CAP "Gain amplifier bypass capacitor connection", 6 CAP "Gain amplifier bypass capacitor connection", 7 AINP (in) "Positive analog input", 8 AINN (in) "Negative analog input", 9 VREFN (in) "Negative reference input", 10 VREFP (in) "Positive reference input", 11 GND (power) "Ground for digital and analog supplies", 12 PSW (power) "Low-side power switch", 13 AVDD (power) "Analog power supply", 14 ~{PDWN} (in) "Power-down: holding this pin low powers down the entire converter and resets the ADC.", 15 SCLK (in) "Serial clock: clock out data on the rising edge. Also used to initiate Standby mode. See the Standby Mode section for more details.", 16 ~{DRDY}/DOUT (out) "Dual-purpose output:Data ready: indicates valid data by going low.Data output: outputs data, MSB first, on the first rising edge of SCLK."

## ADS1231IDR
designator U?
Low-Noise, 24-Bit ADC, -40 to 85 degC, 16-pin SOIC (D16), Green (RoHS & no Sb/Br); Manufacturer: Texas Instruments; PartNumber: ADS1231IDR; # Input Channels: 1; Analog Voltage AV/DD(Max)(V): 5.3; Analog Voltage AV/DD(Min)(V): 2.7; Architecture: Delta-Sigma; ENOB(Bits): 18.5; Interface: Serial SPI; Resolution(Bits): 24; Sample Rate (max)(SPS): 80; SubFamily: Precision ADC (<=10MSPS); DatasheetVersion: SBAS414C; PackageVersion: 4040047-6/M, 06/2011; PackageReference: D16; PackageDescription: 16-Pin Plastic Small Outline, Body 9.9 x 3.9 mm, Pitch 1.27 mm; Supplier 1: Digi-Key; Supplier Part Number 1: ADS1254E-ND; Digital Supply(Max)(V): 5.3; Digital Supply(Min)(V): 2.7; Eco-Plan: Green (RoHS & no Sb/Br); Mounting Technology: Surface Mount; Code_JEDEC: MS-012; ComponentLink1Description: Manufacturer URL; ComponentLink1URL: http://www.ti.com/; ComponentLink2Description: Datasheet; ComponentLink2URL: http://www.ti.com/general/docs/lit/getliterature.tsp?genericPartNumber=ADS1231&fileType=pdf; ComponentLink3Description: Package Specification; ComponentLink3URL: http://www.ti.com/litv/pdf/mpds178g
footprint TI-D16_N (SOIC, 16-Leads, Body 9.9x3.9mm, Pitch 1.27mm, IPC Medium Density)
footprint TI-D16_L (SOIC, 16-Leads, Body 9.9x3.9mm, Pitch 1.27mm, IPC High Density)
footprint TI-D16_M (SOIC, 16-Leads, Body 9.9x3.9mm, Pitch 1.27mm, IPC Low Density)
pins: 1 DVDD (power) "Digital power supply", 2 GND (power) "Ground for digital and analog supplies", 3 CLKIN (in) "External clock input: typically 4.9152MHz. Tie low to activate internal oscillator.", 4 SPEED (in) "Data rate select:", 5 CAP "Gain amplifier bypass capacitor connection", 6 CAP "Gain amplifier bypass capacitor connection", 7 AINP (in) "Positive analog input", 8 AINN (in) "Negative analog input", 9 VREFN (in) "Negative reference input", 10 VREFP (in) "Positive reference input", 11 GND (power) "Ground for digital and analog supplies", 12 PSW (power) "Low-side power switch", 13 AVDD (power) "Analog power supply", 14 ~{PDWN} (in) "Power-down: holding this pin low powers down the entire converter and resets the ADC.", 15 SCLK (in) "Serial clock: clock out data on the rising edge. Also used to initiate Standby mode. See the Standby Mode section for more details.", 16 ~{DRDY}/DOUT (out) "Dual-purpose output:Data ready: indicates valid data by going low.Data output: outputs data, MSB first, on the first rising edge of SCLK."

## ADS1232IPW
designator U?
24-Bit, Ultra Low-Noise ADC, -40 to 105 degC, 24-pin SOP (PW24), Green (RoHS & no Sb/Br); Manufacturer: Texas Instruments; PartNumber: ADS1232IPW; # Input Channels: 2; Analog Voltage AV/DD(Max)(V): 5.3; Analog Voltage AV/DD(Min)(V): 2.7; Architecture: Delta-Sigma; ENOB(Bits): 21.8; Interface: Serial SPI; Resolution(Bits): 24; Sample Rate (max)(SPS): 80; SubFamily: Precision ADC (<=10MSPS); DatasheetVersion: SBAS350F; PackageVersion: 4040064-6/G, 02/2011; PackageReference: PW24; PackageDescription: 24-Pin Plastic Small Outline, Body 7.8 x 4.4 mm, Pitch 0.65 mm; Supplier 1: Digi-Key; Supplier Part Number 1: ADS1224IPWR-ND; Digital Supply(Max)(V): 5.3; Digital Supply(Min)(V): 2.7; Eco-Plan: Green (RoHS & no Sb/Br); Mounting Technology: Surface Mount; Code_JEDEC: MO-153; ComponentLink1Description: Manufacturer URL; ComponentLink1URL: http://www.ti.com/; ComponentLink2Description: Datasheet; ComponentLink2URL: http://www.ti.com/general/docs/lit/getliterature.tsp?genericPartNumber=ADS1232&fileType=pdf; ComponentLink3Description: Package Specification; ComponentLink3URL: http://www.ti.com/litv/pdf/mpds363
footprint TI-PW24_N (SOP, 24-Leads, Body 7.8x4.4mm, Pitch 0.65mm, IPC Medium Density)
footprint TI-PW24_L (SOP, 24-Leads, Body 7.8x4.4mm, Pitch 0.65mm, IPC High Density)
footprint TI-PW24_M (SOP, 24-Leads, Body 7.8x4.4mm, Pitch 0.65mm, IPC Low Density)
pins: 1 DVDD (power) "Digital Power Supply: 2.7V to 5.3V", 2 DGND (power) "Digital Ground", 3 CLKIN/XTAL1 (in) "External Clock Input: typically 4.9152MHz. Tie low to activate internal oscillator. Can also use external crystal across CLKIN/XTAL1 and XTAL2 pins. See text for more details.", 4 XTAL2 "External crystal connection", 5 DGND (power) "Digital Ground", 6 DGND (power) "Digital Ground", 7 TEMP (in) "Onboard Temperature Diode Enable", 8 A0 (in) "Input Mux Select Input pin (LSB)", 9 CAP "Gain Amp Bypass Capacitor Connection", 10 CAP "Gain Amp Bypass Capacitor Connection", 11 AINP1 (in) "Positive Analog Input Channel 1", 12 AINN1 (in) "Negative Analog Input Channel 1", 13 AINN2 (in) "Negative Analog Input Channel 2", 14 AINP2 (in) "Positive Analog Input Channel 2", 15 REFN (in) "Negative Reference Input", 16 REFP (in) "Positive Reference Input", 17 AGND (power) "Analog Ground", 18 AVDD (power) "Analog Power Supply, 2.7V to 5.3V", 19 GAIN0 (in) "Gain Select", 20 GAIN1 (in) "Gain Select", 21 SPEED (in) "Data Rate Select", 22 ~{PDWN} (in) "Power-Down: Holding this pin low powers down the entire converter and resets the ADC.", 23 SCLK (in) "Serial Clock: Clock out data on the rising edge.Also used to initiate Offset Calibration and Sleep modes. See text for more details.", 24 ~{DRDY}/DOUT (out) "Dual-Purpose Output Data Ready: Indicates valid data by going low.Data Output: Outputs data, MSB first, on the first rising edge of SCLK."